# Altium integrated library Cypress PSoC 1.IntLib: 188 symbols (part 5 of 11)
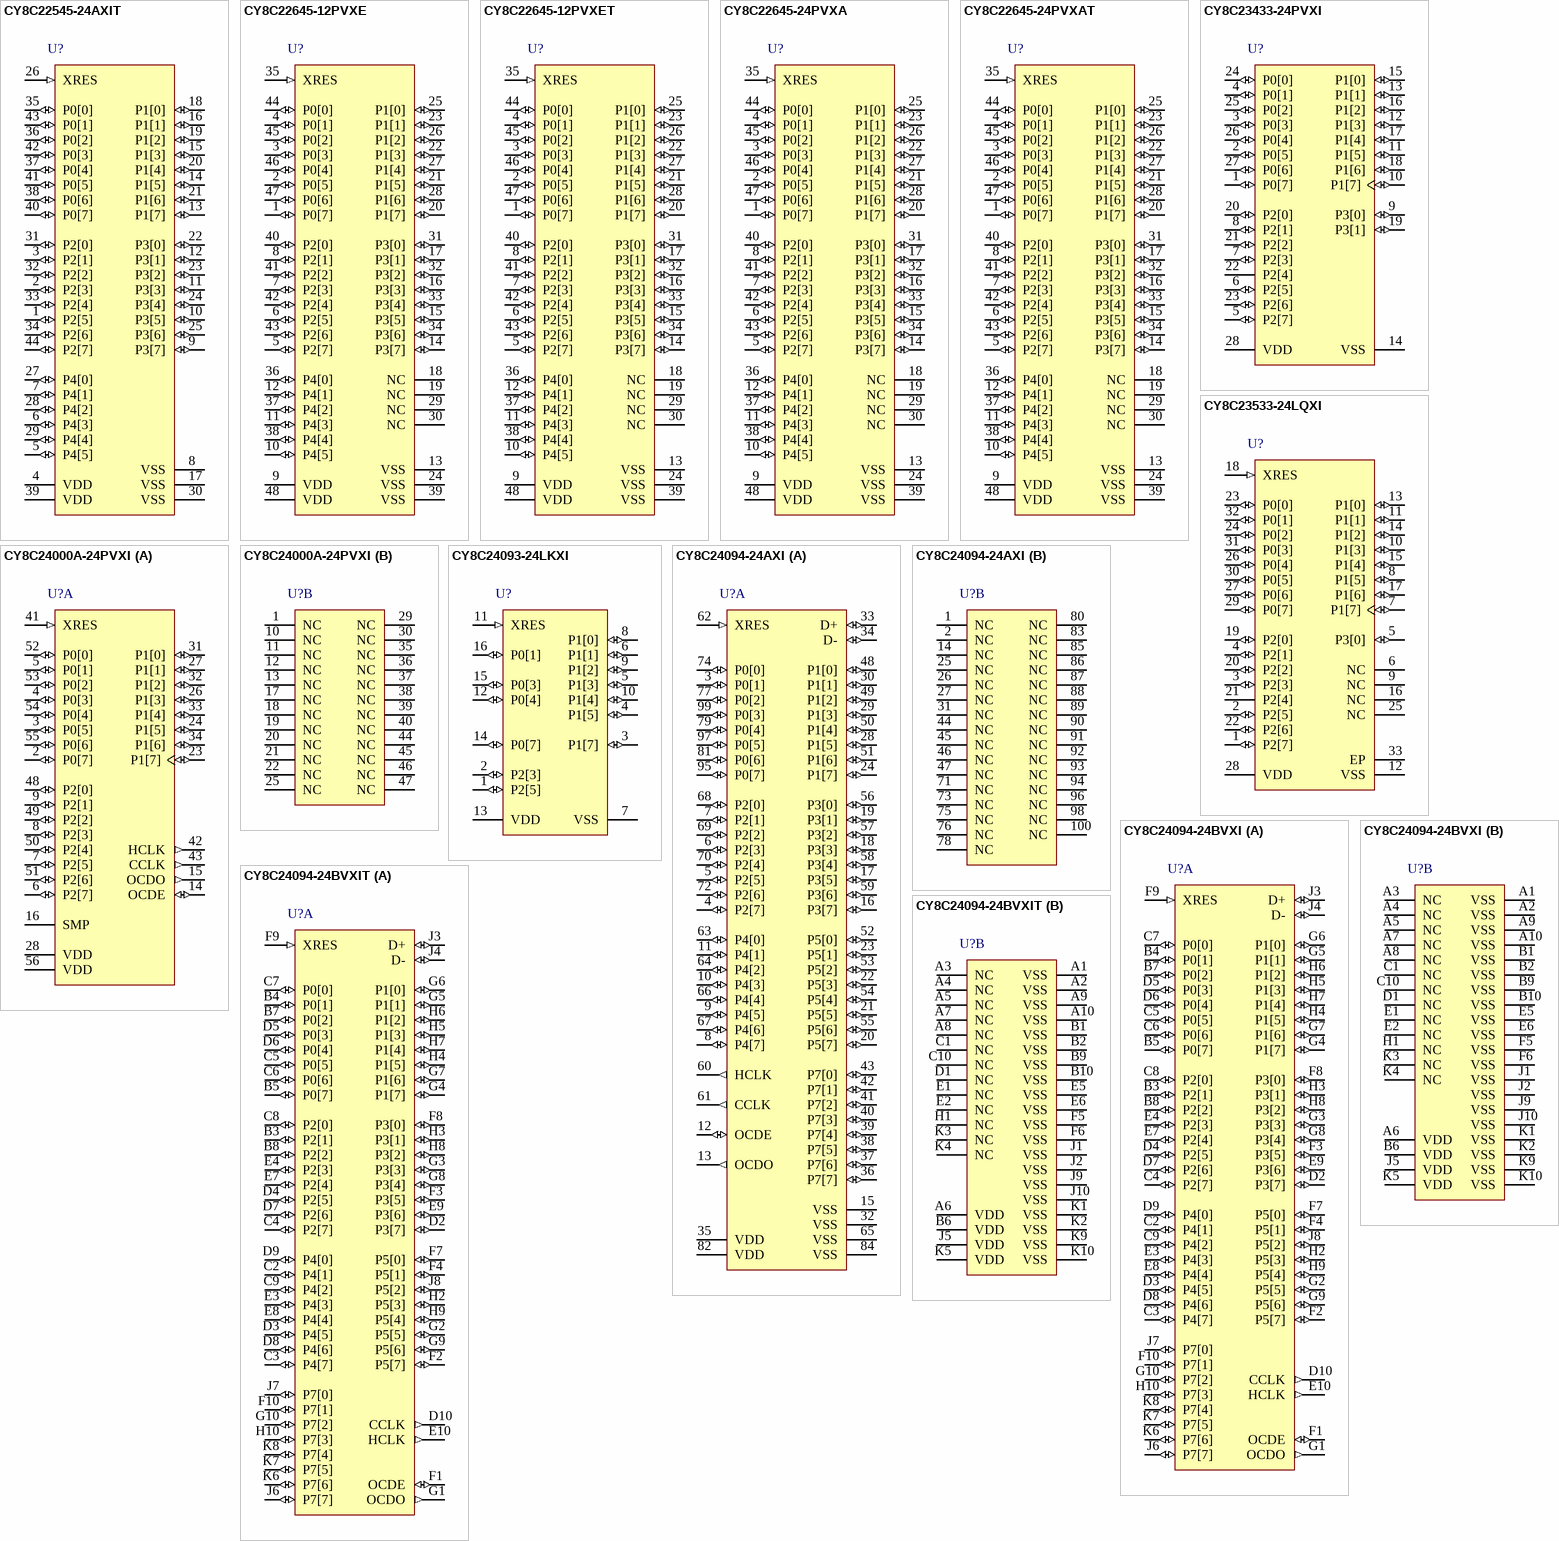
[diagram p15: symbols CY8C22545-24AXIT to CY8C24094-24BVXIT]

## CY8C22645-12PVXET
designator U?
Automotive PSoC Programmable System-on-Chip, 16 KB Flash, 39 GPIOs, 4.75 to 5.25 V, 48-Pin SSOP (O483), Tape and Reel; Manufacturer: Cypress; PartNumber: CY8C22645-12PVXET; CPU Core: M8C; No. of CapSense IO: 36; Flash (KB): 16; Max. Operating Voltage (V): 5.25; Min. Operating Voltage (V): 4.75; No. of GPIOs: 39; No. of Programmable Digital Blocks: 8; Rating: E; SRAM (KB): 1; DatasheetVersion: Rev. *K; PackageVersion: *D; PackageReference: PVX48; PackageDescription: 48-Pin Shrunk Small Outline Package, Body 15.88 x 7.51 mm, Pitch 0.64 mm; Supplier 1: Digi-Key; Supplier Part Number 1: CY8C22645-12PVXET-ND; Supplier 2: Mouser; Supplier Part Number 2: 727-CY8C2264512PVXET; Max. Operating Temp. (°C): 125; Min. Operating Temp. (°C): -40; Packing: Tape and Reel; RoHS: Pb-Free; Mounting Technology: Surface Mount; ComponentLink1Description: Manufacturer URL; ComponentLink1URL: http://www.cypress.com/; ComponentLink2Description: Datasheet; ComponentLink2URL: http://www.cypress.com/?docID=40421; ComponentLink3Description: Package Specification; ComponentLink3URL: http://www.cypress.com/?docID=39235; ComponentLink4Description: Product URL; ComponentLink4URL: http://www.cypress.com/?rID=42798
footprint CYP-PVX48_N (SOP, 48-Leads, Body 15.88x7.51mm, Pitch 0.635mm, IPC Medium Density)
footprint CYP-PVX48_L (SOP, 48-Leads, Body 15.88x7.51mm, Pitch 0.635mm, IPC High Density)
footprint CYP-PVX48_M (SOP, 48-Leads, Body 15.88x7.51mm, Pitch 0.635mm, IPC Low Density)
pins: 1 P0[7] (io) "Analog column mux input, CMOD capacitor pin", 2 P0[5] (io) "Analog column mux input, CMOD capacitor pin", 3 P0[3] (io) "Analog column mux input", 4 P0[1] (io) "Analog column mux input", 5 P2[7] (io) "Direct input to analog block", 6 P2[5] (io) "Optional SAR ADC external reference", 7 P2[3] (io), 8 P2[1] (io), 9 VDD (power) "Supply voltage", 10 P4[5] (io), 11 P4[3] (io), 12 P4[1] (io), 13 VSS (power) "Ground connection", 14 P3[7] (io), 15 P3[5] (io), 16 P3[3] (io), 17 P3[1] (io), 18 NC "Not connected", 19 NC "Not connected", 20 P1[7] (io) "I2C serial clock", 21 P1[5] (io) "I2C serial data", 22 P1[3] (io), 23 P1[1] (io) "Crystal input (XTALin), I2C SCL,ISSP-SCLK", 24 VSS (power), 25 P1[0] (io) "Crystal output (XTALout), I2C SDA,ISSP-SDATA", 26 P1[2] (io), 27 P1[4] (io) "Optional external clock input", 28 P1[6] (io), 29 NC "Not connected", 30 NC "Not connected", 31 P3[0] (io), 32 P3[2] (io), 33 P3[4] (io), 34 P3[6] (io), 35 XRES (in) "Active high external reset with internal pull-down", 36 P4[0] (io), 37 P4[2] (io), 38 P4[4] (io), 39 VSS (power) "Ground connection", 40 P2[0] (io), 41 P2[2] (io), 42 P2[4] (io), 43 P2[6] (io) "Direct input to analog block", 44 P0[0] (io) "Analog column mux input", 45 P0[2] (io) "Analog column mux input", 46 P0[4] (io) "Analog column mux input", 47 P0[6] (io) "Analog column mux input", 48 VDD (power) "Supply voltage"

## CY8C22645-24PVXA
designator U?
Automotive PSoC Programmable System-on-Chip, 16 KB Flash, 39 GPIOs, 3.00 to 5.25 V, 48-Pin SSOP (O483); Manufacturer: Cypress; PartNumber: CY8C22645-24PVXA; CPU Core: M8C; No. of CapSense IO: 36; Flash (KB): 16; Max. Operating Voltage (V): 5.25; Min. Operating Voltage (V): 3; No. of GPIOs: 39; No. of Programmable Digital Blocks: 8; Rating: A; SRAM (KB): 1; DatasheetVersion: Rev. *K; PackageVersion: *D; PackageReference: PVX48; PackageDescription: 48-Pin Shrunk Small Outline Package, Body 15.88 x 7.51 mm, Pitch 0.64 mm; Supplier 1: Digi-Key; Supplier Part Number 1: CY8C22645-24PVXA-ND; Supplier 2: Mouser; Supplier Part Number 2: 727-CY8C22645-24PVXA; Max. Operating Temp. (°C): 85; Min. Operating Temp. (°C): -40; RoHS: Pb-Free; Mounting Technology: Surface Mount; ComponentLink1Description: Manufacturer URL; ComponentLink1URL: http://www.cypress.com/; ComponentLink2Description: Datasheet; ComponentLink2URL: http://www.cypress.com/?docID=40421; ComponentLink3Description: Package Specification; ComponentLink3URL: http://www.cypress.com/?docID=39235; ComponentLink4Description: Product URL; ComponentLink4URL: http://www.cypress.com/?rID=42798
footprint CYP-PVX48_N (SOP, 48-Leads, Body 15.88x7.51mm, Pitch 0.635mm, IPC Medium Density)
footprint CYP-PVX48_L (SOP, 48-Leads, Body 15.88x7.51mm, Pitch 0.635mm, IPC High Density)
footprint CYP-PVX48_M (SOP, 48-Leads, Body 15.88x7.51mm, Pitch 0.635mm, IPC Low Density)
pins: 1 P0[7] (io) "Analog column mux input, CMOD capacitor pin", 2 P0[5] (io) "Analog column mux input, CMOD capacitor pin", 3 P0[3] (io) "Analog column mux input", 4 P0[1] (io) "Analog column mux input", 5 P2[7] (io) "Direct input to analog block", 6 P2[5] (io) "Optional SAR ADC external reference", 7 P2[3] (io), 8 P2[1] (io), 9 VDD (power) "Supply voltage", 10 P4[5] (io), 11 P4[3] (io), 12 P4[1] (io), 13 VSS (power) "Ground connection", 14 P3[7] (io), 15 P3[5] (io), 16 P3[3] (io), 17 P3[1] (io), 18 NC "Not connected", 19 NC "Not connected", 20 P1[7] (io) "I2C serial clock", 21 P1[5] (io) "I2C serial data", 22 P1[3] (io), 23 P1[1] (io) "Crystal input (XTALin), I2C SCL,ISSP-SCLK", 24 VSS (power), 25 P1[0] (io) "Crystal output (XTALout), I2C SDA,ISSP-SDATA", 26 P1[2] (io), 27 P1[4] (io) "Optional external clock input", 28 P1[6] (io), 29 NC "Not connected", 30 NC "Not connected", 31 P3[0] (io), 32 P3[2] (io), 33 P3[4] (io), 34 P3[6] (io), 35 XRES (in) "Active high external reset with internal pull-down", 36 P4[0] (io), 37 P4[2] (io), 38 P4[4] (io), 39 VSS (power) "Ground connection", 40 P2[0] (io), 41 P2[2] (io), 42 P2[4] (io), 43 P2[6] (io) "Direct input to analog block", 44 P0[0] (io) "Analog column mux input", 45 P0[2] (io) "Analog column mux input", 46 P0[4] (io) "Analog column mux input", 47 P0[6] (io) "Analog column mux input", 48 VDD (power) "Supply voltage"

## CY8C22645-24PVXAT
designator U?
Automotive PSoC Programmable System-on-Chip, 16 KB Flash, 39 GPIOs, 3.00 to 5.25 V, 48-Pin SSOP (O483), Tape and Reel; Manufacturer: Cypress; PartNumber: CY8C22645-24PVXAT; CPU Core: M8C; No. of CapSense IO: 36; Flash (KB): 16; Max. Operating Voltage (V): 5.25; Min. Operating Voltage (V): 3; No. of GPIOs: 39; No. of Programmable Digital Blocks: 8; Rating: A; SRAM (KB): 1; DatasheetVersion: Rev. *K; PackageVersion: *D; PackageReference: PVX48; PackageDescription: 48-Pin Shrunk Small Outline Package, Body 15.88 x 7.51 mm, Pitch 0.64 mm; Supplier 1: Digi-Key; Supplier Part Number 1: CY8C22645-24PVXAT-ND; Supplier 2: Mouser; Supplier Part Number 2: 727-CY8C2264524PVXAT; Max. Operating Temp. (°C): 85; Min. Operating Temp. (°C): -40; Packing: Tape and Reel; RoHS: Pb-Free; Mounting Technology: Surface Mount; ComponentLink1Description: Manufacturer URL; ComponentLink1URL: http://www.cypress.com/; ComponentLink2Description: Datasheet; ComponentLink2URL: http://www.cypress.com/?docID=40421; ComponentLink3Description: Package Specification; ComponentLink3URL: http://www.cypress.com/?docID=39235; ComponentLink4Description: Product URL; ComponentLink4URL: http://www.cypress.com/?rID=42798
footprint CYP-PVX48_N (SOP, 48-Leads, Body 15.88x7.51mm, Pitch 0.635mm, IPC Medium Density)
footprint CYP-PVX48_L (SOP, 48-Leads, Body 15.88x7.51mm, Pitch 0.635mm, IPC High Density)
footprint CYP-PVX48_M (SOP, 48-Leads, Body 15.88x7.51mm, Pitch 0.635mm, IPC Low Density)
pins: 1 P0[7] (io) "Analog column mux input, CMOD capacitor pin", 2 P0[5] (io) "Analog column mux input, CMOD capacitor pin", 3 P0[3] (io) "Analog column mux input", 4 P0[1] (io) "Analog column mux input", 5 P2[7] (io) "Direct input to analog block", 6 P2[5] (io) "Optional SAR ADC external reference", 7 P2[3] (io), 8 P2[1] (io), 9 VDD (power) "Supply voltage", 10 P4[5] (io), 11 P4[3] (io), 12 P4[1] (io), 13 VSS (power) "Ground connection", 14 P3[7] (io), 15 P3[5] (io), 16 P3[3] (io), 17 P3[1] (io), 18 NC "Not connected", 19 NC "Not connected", 20 P1[7] (io) "I2C serial clock", 21 P1[5] (io) "I2C serial data", 22 P1[3] (io), 23 P1[1] (io) "Crystal input (XTALin), I2C SCL,ISSP-SCLK", 24 VSS (power), 25 P1[0] (io) "Crystal output (XTALout), I2C SDA,ISSP-SDATA", 26 P1[2] (io), 27 P1[4] (io) "Optional external clock input", 28 P1[6] (io), 29 NC "Not connected", 30 NC "Not connected", 31 P3[0] (io), 32 P3[2] (io), 33 P3[4] (io), 34 P3[6] (io), 35 XRES (in) "Active high external reset with internal pull-down", 36 P4[0] (io), 37 P4[2] (io), 38 P4[4] (io), 39 VSS (power) "Ground connection", 40 P2[0] (io), 41 P2[2] (io), 42 P2[4] (io), 43 P2[6] (io) "Direct input to analog block", 44 P0[0] (io) "Analog column mux input", 45 P0[2] (io) "Analog column mux input", 46 P0[4] (io) "Analog column mux input", 47 P0[6] (io) "Analog column mux input", 48 VDD (power) "Supply voltage"

## CY8C23433-24PVXI
designator U?
PSoC Programmable System-on-Chip, 8 KB Flash, 26 GPIOs, 3.00 to 5.25 V, 28 Pin SSOP (O28.21); Manufacturer: Cypress; PartNumber: CY8C23433-24PVXI; Flash (KB): 8; Max. Operating Voltage (V): 5.25; Min. Operating Voltage (V): 3.00; No. of Programmable Digital Blocks: 4; DatasheetVersion: Rev. *H; PackageVersion: *C; PackageReference: PVX28; PackageDescription: 28-Pin SSOP, Body 10.2 x 5.3 mm, Pitch 0.65 mm; Supplier 1: Digi-Key; Supplier Part Number 1: CY8C23433-24PVXI-ND; Supplier 2: Mouser; Supplier Part Number 2: 727-CY8C23433-24PVXI; Mounting Technology: Surface Mount; ComponentLink1Description: Manufacturer URL; ComponentLink1URL: http://www.cypress.com/; ComponentLink2Description: Datasheet; ComponentLink2URL: http://www.cypress.com/?docID=45259; ComponentLink3Description: Package Specification; ComponentLink3URL: http://www.cypress.com/?docID=1371; ComponentLink4Description: Product URL; ComponentLink4URL: http://www.cypress.com/?rID=3377
footprint CYP-PVX28_N (SOP, 28-Leads, Body 10.2x5.3mm, Pitch 0.65mm, IPC Medium Density)
footprint CYP-PVX28_L (SOP, 28-Leads, Body 10.2x5.3mm, Pitch 0.65mm, IPC High Density)
footprint CYP-PVX28_M (SOP, 28-Leads, Body 10.2x5.3mm, Pitch 0.65mm, IPC Low Density)
pins: 1 P0[7] (io) "Analog column mux IP and ADC IP", 2 P0[5] (io) "Analog column mux IP and column O/P and ADC IP", 3 P0[3] (io) "Analog column mux IP and column O/P and ADC IP", 4 P0[1] (io) "Analog column mux IP and ADC IP", 5 P2[7] (io) "GPIO", 6 P2[5] (io) "GPIO", 7 P2[3] (io) "Direct switched capacitor input", 8 P2[1] (io) "Direct switched capacitor input", 9 P3[0] (io) "GPIO/ADC Vref (optional)", 10 P1[7] (io) "I2C SCL", 11 P1[5] (io) "I2C SDA", 12 P1[3] (io) "GPIO", 13 P1[1] (io) "GPIO, Xtal input, I2C SCL, ISSP SCL", 14 VSS (power) "Ground Pin", 15 P1[0] (io) "GPIO, Xtal output, I2C SDA, ISSP SDA", 16 P1[2] (io) "GPIO", 17 P1[4] (io) "GPIO, External clock IP", 18 P1[6] (io) "GPIO", 19 P3[1] (io) "GPIO", 20 P2[0] (io) "Direct switched capacitor input", 21 P2[2] (io) "Direct switched capacitor input", 22 P2[4] (power) "External analog ground (AGnd)", 23 P2[6] (io) "Analog voltage reference (VRef)", 24 P0[0] (io) "Analog column mux IP and ADC IP", 25 P0[2] (io) "Analog column mux IP and ADC IP", 26 P0[4] (io) "Analog column mux IP and ADC IP", 27 P0[6] (io) "Analog column mux IP and ADC IP", 28 VDD (power) "Supply Voltage"

## CY8C23533-24LQXI
designator U?
PSoC Programmable System-on-Chip, 8 KB Flash, 26 GPIOs, 3.00 to 5.25 V, 32-Pin QFN (LQ32); Manufacturer: Cypress; PartNumber: CY8C23533-24LQXI; Flash (KB): 8; Max. Operating Voltage (V): 5.25; Min. Operating Voltage (V): 3.00; No. of Programmable Digital Blocks: 4; DatasheetVersion: Rev. *H; PackageReference: LQX32; PackageDescription: 32-Pin QFN (5 x 4 x 0.55 mm) LQ32 3.5 x 3.5 E-Pad (Sawn); Supplier 1: Digi-Key; Supplier Part Number 1: CY8C23533-24LQXI-ND; Supplier 2: Mouser; Supplier Part Number 2: 727-CY8C23533-24LQXI; Mounting Technology: Surface Mount; Code_JEDEC: MO-248; ComponentLink1Description: Manufacturer URL; ComponentLink1URL: http://www.cypress.com/; ComponentLink2Description: Datasheet; ComponentLink2URL: http://www.cypress.com/?docID=45259; ComponentLink3Description: Package Specification; ComponentLink3URL: http://www.cypress.com/?docID=40402; ComponentLink4Description: Product URL; ComponentLink4URL: http://www.cypress.com/?rID=3377
footprint CYP-LQX32_N (QFN, 32-Leads, Body 5x5mm, Pitch 0.5mm, Thermal Pad 3.5x3.5mm, IPC Medium Density)
footprint CYP-LQX32_L (QFN, 32-Leads, Body 5x5mm, Pitch 0.5mm, Thermal Pad 3.5X3.5mm, IPC High Density)
footprint CYP-LQX32_M (QFN, 32-Leads, Body 5x5mm, Pitch 0.5mm, Thermal Pad 3.5x3.5mm, IPC Low Density)
pins: 1 P2[7] (io) "GPIO", 2 P2[5] (io) "GPIO", 3 P2[3] (io) "Direct switched capacitor block input", 4 P2[1] (io) "Direct switched capacitor block input", 5 P3[0] (io) "GPIO/ADC Vref (optional)", 6 NC "No connection", 7 P1[7] (io) "I2C serial clock (SCL)", 8 P1[5] (io) "I2C serial data (SDA)", 9 NC "No connection", 10 P1[3] (io) "GPIO", 11 P1[1] (io) "GPIO, crystal Input (XTAL in), I2C serial clock(SCL),ISSP-SCLK", 12 VSS (power) "Ground connection", 13 P1[0] (io) "GPIO, crystal output (XTAL out), I2C serial data(SDA),ISSP-SDATA", 14 P1[2] (io) "GPIO", 15 P1[4] (io) "GPIO, external clock IP", 16 NC "No connection", 17 P1[6] (io) "GPIO", 18 XRES (in) "Active high external reset with internal pull down", 19 P2[0] (io) "Direct switched capacitor block input", 20 P2[2] (io) "Direct switched capacitor block input", 21 P2[4] (power) "External analog ground (AGnd)", 22 P2[6] (io) "External voltage reference (VRef)", 23 P0[0] (io) "Analog column mux input and ADC input", 24 P0[2] (io) "Analog column mux input and ADC input", 25 NC "No connection", 26 P0[4] (io) "Analog column mux input and ADC input", 27 P0[6] (io) "Analog column mux input and ADC input", 28 VDD (power) "Supply voltage", 29 P0[7] (io) "Analog column mux input and ADC input", 30 P0[5] (io) "Analog column mux input, column output and ADC input", 31 P0[3] (io) "Analog column mux input, column output and ADC input", 32 P0[1] (io) "Analog column mux input.and ADC input", 33 EP (power)

## CY8C24000A-24PVXI
designator U?
PSoC Programmable System-on-Chip, 4 KB Flash, 24 GPIOs, 2.4 to 5.25 V, 56-Pin SSOP (PVX56); Manufacturer: Cypress; PartNumber: CY8C24000A-24PVXI; Flash (KB): 4; Max. Operating Frequency (MHz): 24; Max. Operating Voltage (V): 5.25; Min. Operating Voltage (V): 2.4; SRAM (KB): 0.25; DatasheetVersion: Rev. *T; PackageVersion: Rev. *F, 08/2012; PackageReference: PVX56; PackageDescription: 56-Pin Shrunk Small Outline Package, Body 7.506 x 18.415 mm, Pitch 0.635 mm; Supplier 1: Mouser; Supplier Part Number 1: N/A; Max. Operating Temp. (degreesC): 85; Min. Operating Temp. (degreesC): -40; No. of GPIOs: 24; RoHS: Pb-Free; Mounting Technology: Surface Mount; ComponentLink1Description: Manufacturer URL; ComponentLink1URL: http://www.cypress.com/; ComponentLink2Description: Datasheet; ComponentLink2URL: http://www.cypress.com/?docID=45193; ComponentLink3Description: Package Specification; ComponentLink3URL: http://www.cypress.com/?docID=39259
footprint CYP-PVX56_N (SOP, 56-Leads, Body 18.415x7.506mm, Pitch 0.635mm , IPC Medium Density)
footprint CYP-PVX56_L (SOP, 56-Leads, Body 18.415x7.506mm, Pitch 0.635mm, IPC High Density)
footprint CYP-PVX56_M (SOP, 56-Leads, Body 18.415x7.506mm, Pitch 0.635mm, IPC Low Density)
part A pins: 2 P0[7] (io), 3 P0[5] (io), 4 P0[3] (io), 5 P0[1] (io), 6 P2[7] (io), 7 P2[5] (io), 8 P2[3] (io), 9 P2[1] (io), 14 OCDE (io) "OCD even data I/O", 15 OCDO (out) "OCD odd data output", 16 SMP (power) "SMP connection to required external components", 23 P1[7] (io) "I2C SCL", 24 P1[5] (io) "I2C SDA", 26 P1[3] (io), 27 P1[1] (io) "XTALin, I2C SCL, ISSP-SCLK", 28 VDD (power) "Supply voltage", 31 P1[0] (io) "XTALout, I2C SDA, ISSP-SDATA", 32 P1[2] (io), 33 P1[4] (io) "Optional EXTCLK", 34 P1[6] (io), 41 XRES (in) "Active high external reset with internal pull-down.", 42 HCLK (out) "OCD high speed clock output.", 43 CCLK (out) "OCD CPU clock output.", 48 P2[0] (io) "Direct switched capacitor block input.", 49 P2[2] (io) "Direct switched capacitor block input.", 50 P2[4] (io) "External AGND.", 51 P2[6] (io) "External VREF.", 52 P0[0] (io) "Analog column mux input.", 53 P0[2] (io) "Analog column mux input and column output.", 54 P0[4] (io) "Analog column mux input and column output.", 55 P0[6] (io) "Analog column mux input.", 56 VDD (power) "Supply voltage."
part B pins: 1 NC "No connection. Pin must be left floating", 10 NC "No connection. Pin must be left floating", 11 NC "No connection. Pin must be left floating", 12 NC "No connection. Pin must be left floating", 13 NC "No connection. Pin must be left floating", 17 NC "No connection. Pin must be left floating", 18 NC "No connection. Pin must be left floating", 19 NC "No connection. Pin must be left floating", 20 NC "No connection. Pin must be left floating", 21 NC "No connection. Pin must be left floating", 22 NC "No connection. Pin must be left floating", 25 NC "No connection. Pin must be left floating", 29 NC "No connection. Pin must be left floating", 30 NC "No connection. Pin must be left floating", 35 NC "No connection. Pin must be left floating", 36 NC "No connection. Pin must be left floating", 37 NC "No connection. Pin must be left floating", 38 NC "No connection. Pin must be left floating", 39 NC "No connection. Pin must be left floating", 40 NC "No connection. Pin must be left floating", 44 NC "No connection. Pin must be left floating", 45 NC "No connection. Pin must be left floating", 46 NC "No connection. Pin must be left floating", 47 NC "No connection. Pin must be left floating"

## CY8C24093-24LKXI
designator U?
PSoC Programmable System-on-Chip, 8 KB Flash, 13 GPIOs, 1.71 to 5.5 V, 16-Pin QFN (LKX16), Tray; Manufacturer: Cypress; PartNumber: CY8C24093-24LKXI; Flash (KB): 8; Max. Operating Frequency (MHz): 24; Max. Operating Voltage (V): 5.5; Min. Operating Voltage (V): 1.71; No. of GPIOs: 13; SRAM (KB): 1; DatasheetVersion: Rev. *E; PackageVersion: Rev. *E, 11/2009; PackageReference: LKX16; PackageDescription: 16-Pin Chip on Lead Sawn QFN, Body 3 X 3 mm, Pitch 0.5 mm; Supplier 1: Digi-Key; Supplier Part Number 1: CY8C24093-24LKXI-ND; Supplier 2: Newark; Supplier Part Number 2: 08X4478; Supplier 3: Mouser; Supplier Part Number 3: 727-CY8C24093-24LKXI; Max. Operating Temp. (degreesC): 85; Min. Operating Temp. (degreesC): -40; Packing: Tray; RoHS: Pb-Free; Mounting Technology: Surface Mount; Code_JEDEC: MO-220; ComponentLink1Description: Manufacturer URL; ComponentLink1URL: http://www.cypress.com/; ComponentLink2Description: Datasheet; ComponentLink2URL: http://www.cypress.com/?docID=45475; ComponentLink3Description: Package Specification; ComponentLink3URL: http://www.cypress.com/?docID=39689
footprint CYP-LKX16_N (QFN, 16-Leads, Body 3x3mm, Pitch 0.5mm, IPC Medium Density)
footprint CYP-LKX16_L (QFN, 16-Leads, Body 3x3mm, Pitch 0.5mm, IPC High Density)
footprint CYP-LKX16_M (QFN, 16-Leads, Body 3x3mm, Pitch 0.5mm, IPC Low Density)
pins: 1 P2[5] (io) "Crystal output (XOut)", 2 P2[3] (io) "Crystal input (XIn)", 3 P1[7] (io) "I2C SCL, SPI SS", 4 P1[5] (io) "I2C SDA, SPI MISO", 5 P1[3] (io) "SPI CLK", 6 P1[1] (io) "ISSP CLK, I2C SCL, SPI MOSI", 7 VSS (power) "Ground connection", 8 P1[0] (io) "ISSP DATA, I2C SDA, SPI CLK", 9 P1[2] (io), 10 P1[4] (io) "Optional external clock (EXTCLK)", 11 XRES (in) "Active high external reset with internal pull-down", 12 P0[4] (io), 13 VDD (power) "Supply voltage", 14 P0[7] (io), 15 P0[3] (io), 16 P0[1] (io)

## CY8C24094-24AXI
designator U?
PSoC Programmable System-on-Chip, 16 KB Flash, 56 GPIOs, 3.00 to 5.25 V, 100-Pin TQFP (A100SA); Manufacturer: Cypress; PartNumber: CY8C24094-24AXI; Comm. Interface: I2C-SPI-UART-USB; CPU Core: M8C; No. of CapSense IO: 44; Flash (KB): 16; Max. Operating Voltage (V): 5.25; Min. Operating Voltage (V): 3; No. of GPIOs: 56; Proximity Sensing: Y; PWMs: HW; Rating: I; Sliders: 8; SmartSense Enabled: N; SRAM (KB): 1; DatasheetVersion: Rev. AH; PackageVersion: *D; PackageReference: AX100; PackageDescription: 100-Pin Thin Plastic Quad Flatpack, Body 14 x14 mm, Pitch 0.5 mm; Supplier 1: Mouser; Supplier Part Number 1: N/A; Max. Operating Temp. (°C): 85; Min. Operating Temp. (°C): -40; RoHS: Pb-Free; Mounting Technology: Surface Mount; Code_JEDEC: MS-026; ComponentLink1Description: Manufacturer URL; ComponentLink1URL: http://www.cypress.com/; ComponentLink2Description: Datasheet; ComponentLink2URL: http://www.cypress.com/?docID=45174; ComponentLink3Description: Package Specification; ComponentLink3URL: http://www.cypress.com/?docID=35576; ComponentLink4Description: Product URL; ComponentLink4URL: http://www.cypress.com/?rID=3371
footprint CYP-AX100_N (QFN, 100-Leads, Body 14x14mm, Pitch 0.5mm, IPC Medium Density)
footprint CYP-AX100_L (QFN, 100-Leads, Body 14x14mm, Pitch 0.5mm, IPC High Density)
footprint CYP-AX100_M (QFN, 100-Leads, Body 14x14mm, Pitch 0.5mm, IPC Low Density)
part A pins: 3 P0[1] (io) "Analog column mux input", 4 P2[7] (io), 5 P2[5] (io), 6 P2[3] (io) "Direct switched capacitor block input", 7 P2[1] (io) "Direct switched capacitor block input", 8 P4[7] (io), 9 P4[5] (io), 10 P4[3] (io), 11 P4[1] (io), 12 OCDE (io) "OCD even data I/O", 13 OCDO (out) "OCD odd data output", 15 VSS (power) "Ground connection", 16 P3[7] (io), 17 P3[5] (io), 18 P3[3] (io), 19 P3[1] (io), 20 P5[7] (io), 21 P5[5] (io), 22 P5[3] (io), 23 P5[1] (io), 24 P1[7] (io) "I2C SCL", 28 P1[5] (io) "I2C SDA", 29 P1[3] (io), 30 P1[1] (io) "Crystal (XTALin), I2C SCL, ISSP SCLK", 32 VSS (power) "Ground connection", 33 D+ (io), 34 D- (io), 35 VDD (power) "Supply voltage", 36 P7[7] (io), 37 P7[6] (io), 38 P7[5] (io), 39 P7[4] (io), 40 P7[3] (io), 41 P7[2] (io), 42 P7[1] (io), 43 P7[0] (io), 48 P1[0] (io) "Crystal (XTALout), I2C SDA, ISSP SDATA", 49 P1[2] (io), 50 P1[4] (io) "Optional EXTCLK", 51 P1[6] (io), 52 P5[0] (io), 53 P5[2] (io), 54 P5[4] (io), 55 P5[6] (io), 56 P3[0] (io), 57 P3[2] (io), 58 P3[4] (io), 59 P3[6] (io), 60 HCLK (out) "OCD high speed clock output", 61 CCLK (out) "OCD CPU clock output", 62 XRES (in) "Active high pin reset with internal pull-down", 63 P4[0] (io), 64 P4[2] (io), 65 VSS (power) "Ground connection", 66 P4[4] (io), 67 P4[6] (io), 68 P2[0] (io) "Direct switched capacitor block input", 69 P2[2] (io) "Direct switched capacitor block input", 70 P2[4] (io) "External AGND input", 72 P2[6] (io) "External VREF input", 74 P0[0] (io) "Analog column mux input", 77 P0[2] (io) "Analog column mux input and column output", 79 P0[4] (io) "Analog column mux input and column output", 81 P0[6] (io) "Analog column mux input", 82 VDD (power) "Supply voltage", 84 VSS (power) "Ground connection", 95 P0[7] (io) "Analog column mux input", 97 P0[5] (io) "Analog column mux input and column output", 99 P0[3] (io) "Analog column mux input and column output"
part B pins: 1 NC "No connection. Pin must be left floating", 2 NC "No connection. Pin must be left floating", 14 NC "No connection. Pin must be left floating", 25 NC "No connection. Pin must be left floating", 26 NC "No connection. Pin must be left floating", 27 NC "No connection. Pin must be left floating", 31 NC "No connection. Pin must be left floating", 44 NC "No connection. Pin must be left floating", 45 NC "No connection. Pin must be left floating", 46 NC "No connection. Pin must be left floating", 47 NC "No connection. Pin must be left floating", 71 NC "No connection. Pin must be left floating", 73 NC "No connection. Pin must be left floating", 75 NC "No connection. Pin must be left floating", 76 NC "No connection. Pin must be left floating", 78 NC "No connection. Pin must be left floating", 80 NC "No connection. Pin must be left floating", 83 NC "No connection. Pin must be left floating", 85 NC "No connection. Pin must be left floating", 86 NC "No connection. Pin must be left floating", 87 NC "No connection. Pin must be left floating", 88 NC "No connection. Pin must be left floating", 89 NC "No connection. Pin must be left floating", 90 NC "No connection. Pin must be left floating", 91 NC "No connection. Pin must be left floating", 92 NC "No connection. Pin must be left floating", 93 NC "No connection. Pin must be left floating", 94 NC "No connection. Pin must be left floating", 96 NC "No connection. Pin must be left floating", 98 NC "No connection. Pin must be left floating", 100 NC "No connection. Pin must be left floating"

## CY8C24094-24BVXI
designator U?
PSoC Programmable System-on-Chip, 16 KB Flash, 56 GPIOs, 3.00 to 5.25 V, 100-Ball VFBGA (VFBGA-100-51-852096); Manufacturer: Cypress; PartNumber: CY8C24094-24BVXI; Comm. Interface: I2C-SPI-UART-USB; CPU Core: M8C; No. of CapSense IO: 44; Flash (KB): 16; Max. Operating Voltage (V): 5.25; Min. Operating Voltage (V): 3; No. of GPIOs: 56; Proximity Sensing: Y; PWMs: HW; Rating: I; Sliders: 8; SmartSense Enabled: N; SRAM (KB): 1; DatasheetVersion: Rev. AH; PackageVersion: Rev. *J; PackageReference: BVX100; PackageDescription: 100-Ball FBGA, Body 6 x 6 mm, Pitch 0.50 mm; Supplier 1: Digi-Key; Supplier Part Number 1: CY8C24094-24BVXI-ND; Supplier 2: Newark; Supplier Part Number 2: 13T3098; Supplier 3: Mouser; Supplier Part Number 3: 727-CY8C24094-24BVXI; Max. Operating Temp. (°C): 85; Min. Operating Temp. (°C): -40; RoHS: Pb-Free; Mounting Technology: Surface Mount; ComponentLink1Description: Manufacturer URL; ComponentLink1URL: http://www.cypress.com/; ComponentLink2Description: Datasheet; ComponentLink2URL: http://www.cypress.com/?docID=45174; ComponentLink3Description: Package Specification; ComponentLink3URL: http://www.cypress.com/?docID=35576; ComponentLink4Description: Product URL; ComponentLink4URL: http://www.cypress.com/?rID=3371
footprint CYP-BVX100 (BGA, 100-Balls, Body 6x6mm, Pitch 0.5mm)
part A pins: B3 P2[1] (io) "Direct switched capacitor block input", B4 P0[1] (io) "Analog column mux input", B5 P0[7] (io) "Analog column mux input", B7 P0[2] (io) "Analog column mux input", B8 P2[2] (io) "Direct switched capacitor block input", C2 P4[1] (io), C3 P4[7] (io), C4 P2[7] (io), C5 P0[5] (io) "Analog column mux input and column output", C6 P0[6] (io) "Analog column mux input", C7 P0[0] (io) "Analog column mux input", C8 P2[0] (io) "Direct switched capacitor block input", C9 P4[2] (io), D2 P3[7] (io), D3 P4[5] (io), D4 P2[5] (io), D5 P0[3] (io) "Analog column mux input and column output", D6 P0[4] (io) "Analog column mux input", D7 P2[6] (io) "External VREF input", D8 P4[6] (io), D9 P4[0] (io), D10 CCLK (out) "OCD CPU clock output", E3 P4[3] (io), E4 P2[3] (io) "Direct switched capacitor block input", E7 P2[4] (io) "External AGND input", E8 P4[4] (io), E9 P3[6] (io), E10 HCLK (out) "OCD high speed clock output", F1 OCDE (io) "OCD even data I/O", F2 P5[7] (io), F3 P3[5] (io), F4 P5[1] (io), F7 P5[0] (io), F8 P3[0] (io), F9 XRES (in) "Active high pin reset with internal pull-down", F10 P7[1] (io), G1 OCDO (out) "OCD odd data output", G2 P5[5] (io), G3 P3[3] (io), G4 P1[7] (io) "I2C SCL", G5 P1[1] (io) "I2C SCL.ISSP,SCLK", G6 P1[0] (io) "I2C SDA,ISSP SDATA", G7 P1[6] (io), G8 P3[4] (io), G9 P5[6] (io), G10 P7[2] (io), H2 P5[3] (io), H3 P3[1] (io), H4 P1[5] (io) "I2C SDA", H5 P1[3] (io), H6 P1[2] (io), H7 P1[4] (io) "Optional EXTCLK", H8 P3[2] (io), H9 P5[4] (io), H10 P7[3] (io), J3 D+ (io), J4 D- (io), J6 P7[7] (io), J7 P7[0] (io), J8 P5[2] (io), K6 P7[6] (io), K7 P7[5] (io), K8 P7[4] (io)
part B pins: A1 VSS (power) "Ground connection", A2 VSS (power) "Ground connection", A3 NC "No connection. Pin must be left floating", A4 NC "No connection. Pin must be left floating", A5 NC "No connection. Pin must be left floating", A6 VDD (power) "Supply voltage.", A7 NC "No connection. Pin must be left floating.", A8 NC "No connection. Pin must be left floating.", A9 VSS (power) "Ground connection", A10 VSS (power) "Ground connection", B1 VSS (power) "Ground connection", B2 VSS (power) "Ground connection", B6 VDD (power) "Supply voltage", B9 VSS (power) "Ground connection", B10 VSS (power) "Ground connection", C1 NC "No connection. Pin must be left floating", C10 NC "No connection. Pin must be left floating", D1 NC "No connection. Pin must be left floating", E1 NC "No connection. Pin must be left floating", E2 NC "No connection. Pin must be left floating", E5 VSS (power) "Ground connection", E6 VSS (power) "Ground connection", F5 VSS (power) "Ground connection", F6 VSS (power) "Ground connection", H1 NC "No connection. Pin must be left floating", J1 VSS (power) "Ground connection", J2 VSS (power) "Ground connection", J5 VDD (power) "Supply voltage", J9 VSS (power) "Ground connection", J10 VSS (power) "Ground connection", K1 VSS (power) "Ground connection", K2 VSS (power) "Ground connection", K3 NC "No connection. Pin must be left floating", K4 NC "No connection. Pin must be left floating", K5 VDD (power) "Supply voltage", K9 VSS (power) "Ground connection", K10 VSS (power) "Ground connection"

## CY8C24094-24BVXIT
designator U?
PSoC Programmable System-on-Chip, 16 KB Flash, 56 GPIOs, 3.00 to 5.25 V, 100-Pin VFBGA (VFBGA-100-51-85209), Tape and Reel; Manufacturer: Cypress; PartNumber: CY8C24094-24BVXIT; Comm. Interface: I2C-SPI-UART-USB; CPU Core: M8C; No. of CapSense IO: 44; Flash (KB): 16; Max. Operating Voltage (V): 5.25; Min. Operating Voltage (V): 3; No. of GPIOs: 56; Proximity Sensing: Y; PWMs: HW; Rating: I; Sliders: 8; SmartSense Enabled: N; SRAM (KB): 1; DatasheetVersion: Rev. AH; PackageVersion: Rev. *J; PackageReference: BVX100; PackageDescription: 100-Ball FBGA, Body 6 x 6 mm, Pitch 0.50 mm; Supplier 1: Digi-Key; Supplier Part Number 1: CY8C24094-24BVXIT-ND; Supplier 2: Mouser; Supplier Part Number 2: 727-CY8C2409424BVXIT; Max. Operating Temp. (°C): 85; Min. Operating Temp. (°C): -40; Packing: Tape and Reel; RoHS: Pb-Free; Mounting Technology: Surface Mount; ComponentLink1Description: Manufacturer URL; ComponentLink1URL: http://www.cypress.com/; ComponentLink2Description: Datasheet; ComponentLink2URL: http://www.cypress.com/?docID=45174; ComponentLink3Description: Package Specification; ComponentLink3URL: http://www.cypress.com/?docID=35576; ComponentLink4Description: Product URL; ComponentLink4URL: http://www.cypress.com/?rID=3371
footprint CYP-BVX100 (BGA, 100-Balls, Body 6x6mm, Pitch 0.5mm)
part A pins: B3 P2[1] (io) "Direct switched capacitor block input", B4 P0[1] (io) "Analog column mux input", B5 P0[7] (io) "Analog column mux input", B7 P0[2] (io) "Analog column mux input", B8 P2[2] (io) "Direct switched capacitor block input", C2 P4[1] (io), C3 P4[7] (io), C4 P2[7] (io), C5 P0[5] (io) "Analog column mux input and column output", C6 P0[6] (io) "Analog column mux input", C7 P0[0] (io) "Analog column mux input", C8 P2[0] (io) "Direct switched capacitor block input", C9 P4[2] (io), D2 P3[7] (io), D3 P4[5] (io), D4 P2[5] (io), D5 P0[3] (io) "Analog column mux input and column output", D6 P0[4] (io) "Analog column mux input", D7 P2[6] (io) "External VREF input", D8 P4[6] (io), D9 P4[0] (io), D10 CCLK (out) "OCD CPU clock output", E3 P4[3] (io), E4 P2[3] (io) "Direct switched capacitor block input", E7 P2[4] (io) "External AGND input", E8 P4[4] (io), E9 P3[6] (io), E10 HCLK (out) "OCD high speed clock output", F1 OCDE (io) "OCD even data I/O", F2 P5[7] (io), F3 P3[5] (io), F4 P5[1] (io), F7 P5[0] (io), F8 P3[0] (io), F9 XRES (in) "Active high pin reset with internal pull-down", F10 P7[1] (io), G1 OCDO (out) "OCD odd data output", G2 P5[5] (io), G3 P3[3] (io), G4 P1[7] (io) "I2C SCL", G5 P1[1] (io) "I2C SCL.ISSP,SCLK", G6 P1[0] (io) "I2C SDA,ISSP SDATA", G7 P1[6] (io), G8 P3[4] (io), G9 P5[6] (io), G10 P7[2] (io), H2 P5[3] (io), H3 P3[1] (io), H4 P1[5] (io) "I2C SDA", H5 P1[3] (io), H6 P1[2] (io), H7 P1[4] (io) "Optional EXTCLK", H8 P3[2] (io), H9 P5[4] (io), H10 P7[3] (io), J3 D+ (io), J4 D- (io), J6 P7[7] (io), J7 P7[0] (io), J8 P5[2] (io), K6 P7[6] (io), K7 P7[5] (io), K8 P7[4] (io)
part B pins: A1 VSS (power) "Ground connection", A2 VSS (power) "Ground connection", A3 NC "No connection. Pin must be left floating", A4 NC "No connection. Pin must be left floating", A5 NC "No connection. Pin must be left floating", A6 VDD (power) "Supply voltage.", A7 NC "No connection. Pin must be left floating.", A8 NC "No connection. Pin must be left floating.", A9 VSS (power) "Ground connection", A10 VSS (power) "Ground connection", B1 VSS (power) "Ground connection", B2 VSS (power) "Ground connection", B6 VDD (power) "Supply voltage", B9 VSS (power) "Ground connection", B10 VSS (power) "Ground connection", C1 NC "No connection. Pin must be left floating", C10 NC "No connection. Pin must be left floating", D1 NC "No connection. Pin must be left floating", E1 NC "No connection. Pin must be left floating", E2 NC "No connection. Pin must be left floating", E5 VSS (power) "Ground connection", E6 VSS (power) "Ground connection", F5 VSS (power) "Ground connection", F6 VSS (power) "Ground connection", H1 NC "No connection. Pin must be left floating", J1 VSS (power) "Ground connection", J2 VSS (power) "Ground connection", J5 VDD (power) "Supply voltage", J9 VSS (power) "Ground connection", J10 VSS (power) "Ground connection", K1 VSS (power) "Ground connection", K2 VSS (power) "Ground connection", K3 NC "No connection. Pin must be left floating", K4 NC "No connection. Pin must be left floating", K5 VDD (power) "Supply voltage", K9 VSS (power) "Ground connection", K10 VSS (power) "Ground connection"

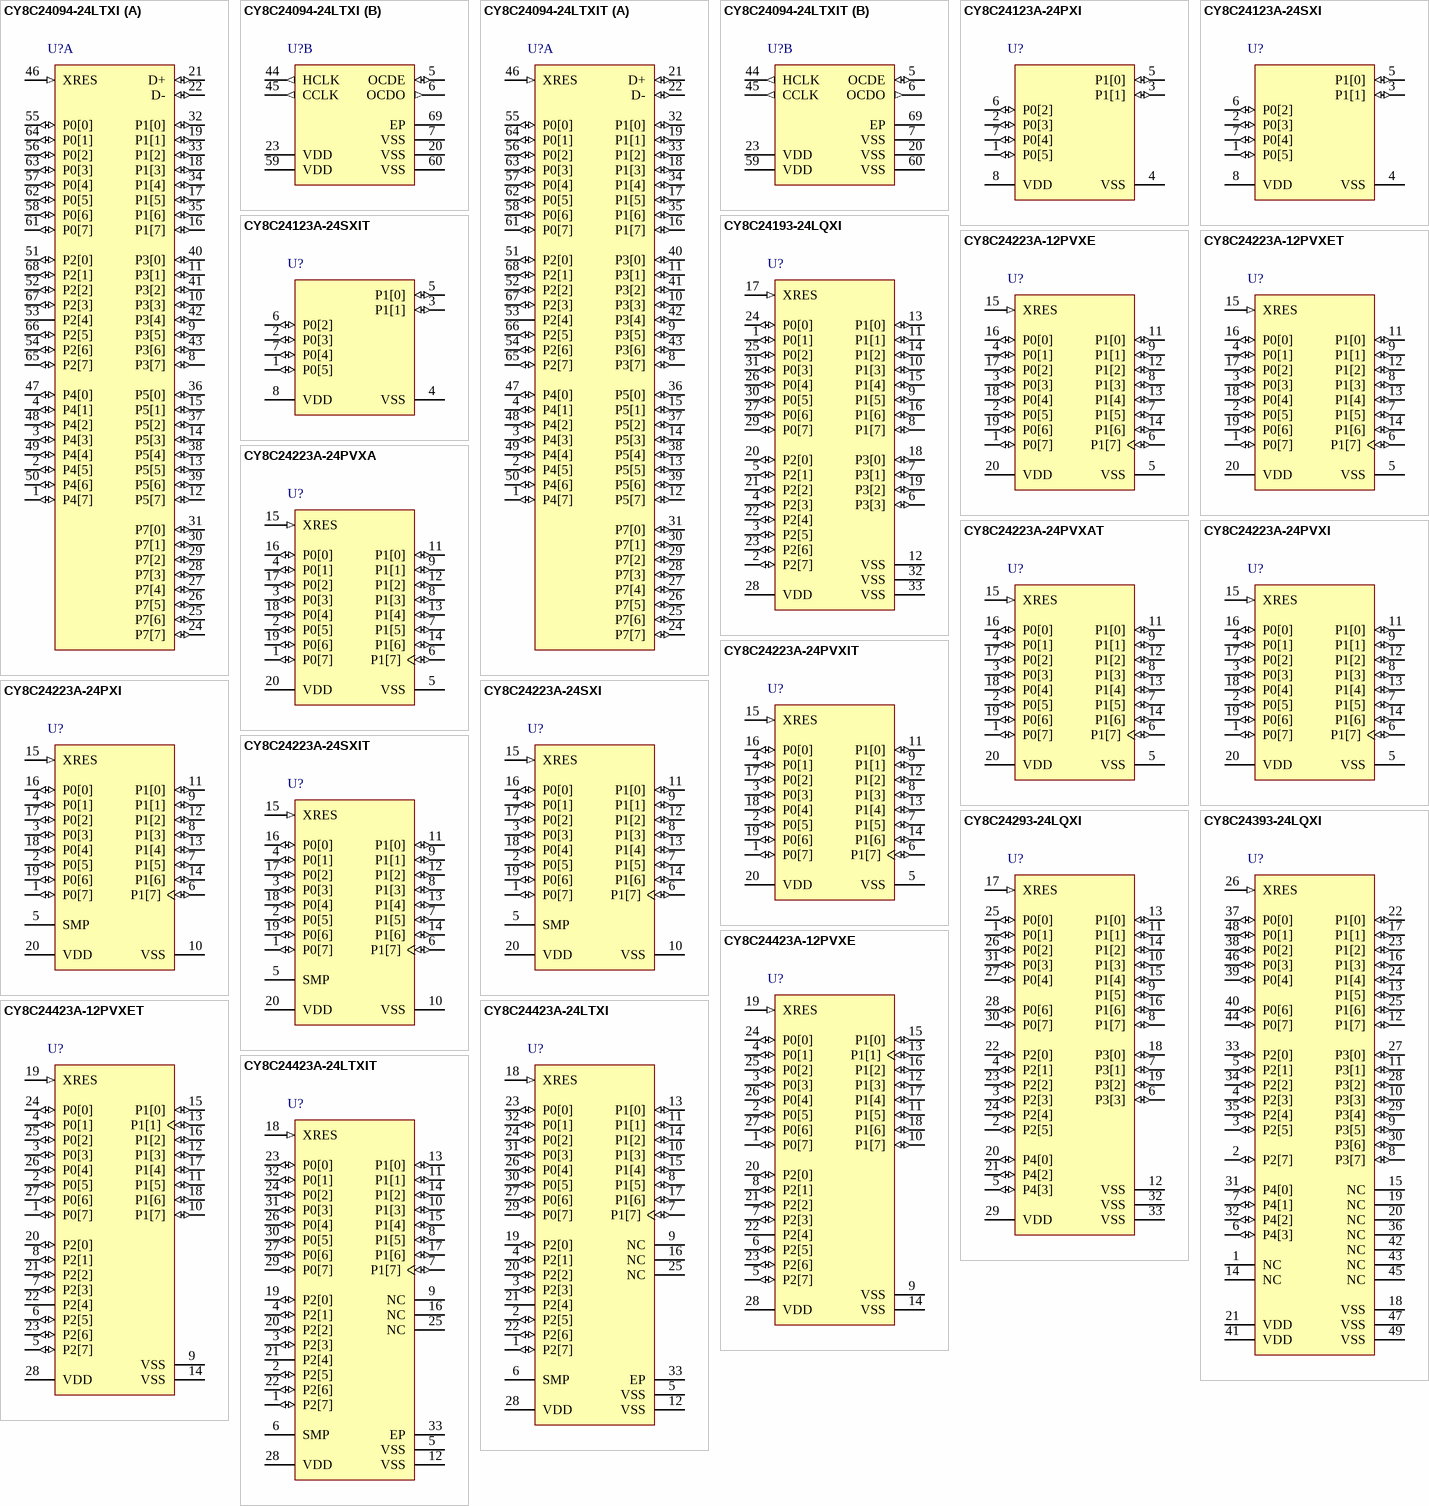
[diagram p5: symbols CY8C24094-24LTXI to CY8C24423A-24LTXIT]

## CY8C24094-24LTXI
designator U?
PSoC Programmable System-on-Chip, 16 KB Flash, 56 GPIOs, 3.00 to 5.25 V, 68-Pin QFN (QFN-68-8x8-001-09618); Manufacturer: Cypress; PartNumber: CY8C24094-24LTXI; Comm. Interface: I2C-SPI-UART-USB; CPU Core: M8C; No. of CapSense IO: 44; Flash (KB): 16; Max. Operating Voltage (V): 5.25; Min. Operating Voltage (V): 3; No. of GPIOs: 56; Proximity Sensing: Y; PWMs: HW; Rating: I; Sliders: 8; SmartSense Enabled: N; SRAM (KB): 1; DatasheetVersion: Rev. AH; PackageVersion: Rev. *E; PackageReference: LTX68; PackageDescription: 68-Pin QFN, Body 8.00 x 8.00 mm, Pitch 0.40 mm; Supplier 1: Digi-Key; Supplier Part Number 1: CY8C24094-24LTXI-ND; Supplier 2: Mouser; Supplier Part Number 2: 727-CY8C24094-24LTXI; Max. Operating Temp. (°C): 85; Min. Operating Temp. (°C): -40; No. of Programmable Digital Blocks: 3; RoHS: Pb-Free; Mounting Technology: Surface Mount; Code_JEDEC: MO-220; ComponentLink1Description: Manufacturer URL; ComponentLink1URL: http://www.cypress.com/; ComponentLink2Description: Datasheet; ComponentLink2URL: http://www.cypress.com/?docID=45174; ComponentLink3Description: Package Specification; ComponentLink3URL: http://www.cypress.com/?docID=38892; ComponentLink4Description: Product URL; ComponentLink4URL: http://www.cypress.com/?rID=3371
footprint CYP-LTX68_N (QFN, 68-Leads, Body 8x8mm, Pitch 0.4mm, Thermal Pad 5.7x5.7mm, IPC Medium Density)
footprint CYP-LTX68_L (QFN, 68-Leads, Body 8x8mm, Pitch 0.4mm, Thermal Pad 5.7x5.7mm, IPC High Density)
footprint CYP-LTX68_M (QFN, 68-Leads, Body 8x8mm, Pitch 0.4mm, Thermal Pad 5.7x5.7mm, IPC Low Density)
part A pins: 1 P4[7] (io), 2 P4[5] (io), 3 P4[3] (io), 4 P4[1] (io), 8 P3[7] (io), 9 P3[5] (io), 10 P3[3] (io), 11 P3[1] (io), 12 P5[7] (io), 13 P5[5] (io), 14 P5[3] (io), 15 P5[1] (io), 16 P1[7] (io) "I2C SCL", 17 P1[5] (io) "I2C SDA", 18 P1[3] (io), 19 P1[1] (io) "I2C SCL, ISSP SCLK", 21 D+ (io), 22 D- (io), 24 P7[7] (io), 25 P7[6] (io), 26 P7[5] (io), 27 P7[4] (io), 28 P7[3] (io), 29 P7[2] (io), 30 P7[1] (io), 31 P7[0] (io), 32 P1[0] (io) "I2C SDA, ISSP SDATA", 33 P1[2] (io), 34 P1[4] (io) "Optional EXTCLK", 35 P1[6] (io), 36 P5[0] (io), 37 P5[2] (io), 38 P5[4] (io), 39 P5[6] (io), 40 P3[0] (io), 41 P3[2] (io), 42 P3[4] (io), 43 P3[6] (io), 46 XRES (in) "Active high pin reset with internal pull-down", 47 P4[0] (io), 48 P4[2] (io), 49 P4[4] (io), 50 P4[6] (io), 51 P2[0] (io) "Direct switched capacitor block input", 52 P2[2] (io) "Direct switched capacitor block input", 53 P2[4] (power) "External AGND input", 54 P2[6] (io) "External VREF input", 55 P0[0] (io) "Analog column mux input", 56 P0[2] (io) "Analog column mux input and column output", 57 P0[4] (io) "Analog column mux input and column output", 58 P0[6] (io) "Analog column mux input", 61 P0[7] (io) "Analog column mux input, integration input #1", 62 P0[5] (io) "Analog column mux input and column output, integration input #2", 63 P0[3] (io) "Analog column mux input and column output", 64 P0[1] (io) "Analog column mux input", 65 P2[7] (io), 66 P2[5] (io), 67 P2[3] (io) "Direct switched capacitor block input", 68 P2[1] (io) "Direct switched capacitor block input"
part B pins: 5 OCDE (io) "OCD even data I/O", 6 OCDO (out) "OCD odd data output", 7 VSS (power) "Ground connection", 20 VSS (power) "Ground connection", 23 VDD (power) "Supply voltage", 44 HCLK (out) "OCD high speed clock output", 45 CCLK (out) "OCD CPU clock output", 59 VDD (power) "Supply voltage", 60 VSS (power) "Ground connection", 69 EP (power)

## CY8C24094-24LTXIT
designator U?
PSoC Programmable System-on-Chip, 16 KB Flash, 56 GPIOs, 3.00 to 5.25 V, 68-Pin QFN (QFN-68-8x8-001-09618), Tape and Reel; Manufacturer: Cypress; PartNumber: CY8C24094-24LTXIT; Comm. Interface: I2C-SPI-UART-USB; CPU Core: M8C; No. of CapSense IO: 44; Flash (KB): 16; Max. Operating Voltage (V): 5.25; Min. Operating Voltage (V): 3; No. of GPIOs: 56; Proximity Sensing: Y; PWMs: HW; Rating: I; Sliders: 8; SmartSense Enabled: N; SRAM (KB): 1; DatasheetVersion: Rev. AH; PackageVersion: Rev. *E; PackageReference: LTX68; PackageDescription: 68-Pin QFN, Body 8.00 x 8.00 mm, Pitch 0.40 mm; Supplier 1: Digi-Key; Supplier Part Number 1: CY8C24094-24LTXIT-ND; Supplier 2: Mouser; Supplier Part Number 2: 727-CY8C2409424LTXIT; Max. Operating Temp. (°C): 85; Min. Operating Temp. (°C): -40; No. of Programmable Digital Blocks: 3; Packing: Tape and Reel; RoHS: Pb-Free; Mounting Technology: Surface Mount; Code_JEDEC: MO-220; ComponentLink1Description: Manufacturer URL; ComponentLink1URL: http://www.cypress.com/; ComponentLink2Description: Datasheet; ComponentLink2URL: http://www.cypress.com/?docID=45174; ComponentLink3Description: Package Specification; ComponentLink3URL: http://www.cypress.com/?docID=38892; ComponentLink4Description: Product URL; ComponentLink4URL: http://www.cypress.com/?rID=3371
footprint CYP-LTX68_N (QFN, 68-Leads, Body 8x8mm, Pitch 0.4mm, Thermal Pad 5.7x5.7mm, IPC Medium Density)
footprint CYP-LTX68_L (QFN, 68-Leads, Body 8x8mm, Pitch 0.4mm, Thermal Pad 5.7x5.7mm, IPC High Density)
footprint CYP-LTX68_M (QFN, 68-Leads, Body 8x8mm, Pitch 0.4mm, Thermal Pad 5.7x5.7mm, IPC Low Density)
part A pins: 1 P4[7] (io), 2 P4[5] (io), 3 P4[3] (io), 4 P4[1] (io), 8 P3[7] (io), 9 P3[5] (io), 10 P3[3] (io), 11 P3[1] (io), 12 P5[7] (io), 13 P5[5] (io), 14 P5[3] (io), 15 P5[1] (io), 16 P1[7] (io) "I2C SCL", 17 P1[5] (io) "I2C SDA", 18 P1[3] (io), 19 P1[1] (io) "I2C SCL, ISSP SCLK", 21 D+ (io), 22 D- (io), 24 P7[7] (io), 25 P7[6] (io), 26 P7[5] (io), 27 P7[4] (io), 28 P7[3] (io), 29 P7[2] (io), 30 P7[1] (io), 31 P7[0] (io), 32 P1[0] (io) "I2C SDA, ISSP SDATA", 33 P1[2] (io), 34 P1[4] (io) "Optional EXTCLK", 35 P1[6] (io), 36 P5[0] (io), 37 P5[2] (io), 38 P5[4] (io), 39 P5[6] (io), 40 P3[0] (io), 41 P3[2] (io), 42 P3[4] (io), 43 P3[6] (io), 46 XRES (in) "Active high pin reset with internal pull-down", 47 P4[0] (io), 48 P4[2] (io), 49 P4[4] (io), 50 P4[6] (io), 51 P2[0] (io) "Direct switched capacitor block input", 52 P2[2] (io) "Direct switched capacitor block input", 53 P2[4] (power) "External AGND input", 54 P2[6] (io) "External VREF input", 55 P0[0] (io) "Analog column mux input", 56 P0[2] (io) "Analog column mux input and column output", 57 P0[4] (io) "Analog column mux input and column output", 58 P0[6] (io) "Analog column mux input", 61 P0[7] (io) "Analog column mux input, integration input #1", 62 P0[5] (io) "Analog column mux input and column output, integration input #2", 63 P0[3] (io) "Analog column mux input and column output", 64 P0[1] (io) "Analog column mux input", 65 P2[7] (io), 66 P2[5] (io), 67 P2[3] (io) "Direct switched capacitor block input", 68 P2[1] (io) "Direct switched capacitor block input"
part B pins: 5 OCDE (io) "OCD even data I/O", 6 OCDO (out) "OCD odd data output", 7 VSS (power) "Ground connection", 20 VSS (power) "Ground connection", 23 VDD (power) "Supply voltage", 44 HCLK (out) "OCD high speed clock output", 45 CCLK (out) "OCD CPU clock output", 59 VDD (power) "Supply voltage", 60 VSS (power) "Ground connection", 69 EP (power)

## CY8C24123A-24PXI
designator U?
PSoC Programmable System-on-Chip, 4 KB Flash, 6 GPIOs, 3.00 to 5.25 V, 8-Pin PDIP (P8); Manufacturer: Cypress; PartNumber: CY8C24123A-24PXI; Flash (KB): 4; Max. Operating Voltage (V): 5.25; Min. Operating Voltage (V): 3.00; DatasheetVersion: Rev. *T; PackageVersion: Rev. *R; PackageReference: DIP-8-51-85075; PackageDescription: 8-Pin PDIP, Row Spacing 7.62 mm, Pitch 2.54 mm; Supplier 1: Digi-Key; Supplier Part Number 1: 428-1602-ND; Supplier 2: Farnell; Supplier Part Number 2: 1267177; Supplier 3: Newark; Supplier Part Number 3: 19M7178; Supplier 4: Mouser; Supplier Part Number 4: 727-CY8C24123A-24PXI; No. of Programmable Digital Blocks: 4; Mounting Technology: Through Hole; ComponentLink1Description: Manufacturer URL; ComponentLink1URL: http://www.cypress.com/; ComponentLink2Description: Datasheet; ComponentLink2URL: http://www.cypress.com/?docID=45193; ComponentLink3Description: Package Specification; ComponentLink3URL: http://www.cypress.com/?docID=36703; ComponentLink4Description: Product URL; ComponentLink4URL: http://www.cypress.com/?rID=3351
footprint CYP-DIP-8-51-85075 (DIP, 8-Leads, Row Spacing 7.62mm, Body 9.779x6.35mm, Pitch 2.54mm)
pins: 1 P0[5] (io) "Analog column mux input and column output", 2 P0[3] (io) "Analog column mux input and column output", 3 P1[1] (io) "Crystal input (XTALin), I2C serial clock (SCL), ISSP-SCLK", 4 VSS (power) "Ground connection", 5 P1[0] (io) "Crystal output (XTALout), I2C serial data (SDA), ISSP-SDATA", 6 P0[2] (io) "Analog column mux input", 7 P0[4] (io) "Analog column mux input", 8 VDD (power) "Supply voltage"

## CY8C24123A-24SXI
designator U?
PSoC Programmable System-on-Chip, 4 KB Flash, 6 GPIOs, 3.00 to 5.25 V, 8-Pin SOIC (S08.15); Manufacturer: Cypress; PartNumber: CY8C24123A-24SXI; Flash (KB): 4; Max. Operating Voltage (V): 5.25; Min. Operating Voltage (V): 3.00; DatasheetVersion: Rev. *T; PackageVersion: *D; PackageReference: S08.15; PackageDescription: 8-Pin SOIC, Body 4.9 x 3.9 mm, Pitch 1.27 mm; Supplier 1: Digi-Key; Supplier Part Number 1: CY8C24123A-24SXI-ND; Supplier 2: Farnell; Supplier Part Number 2: 1267178; Supplier 3: Newark; Supplier Part Number 3: 19M7179; Supplier 4: Mouser; Supplier Part Number 4: 727-CY8C24123A-24SXI; No. of Programmable Digital Blocks: 4; Mounting Technology: Surface Mount; Code_JEDEC: MS-012; ComponentLink1Description: Manufacturer URL; ComponentLink1URL: http://www.cypress.com/; ComponentLink2Description: Datasheet; ComponentLink2URL: http://www.cypress.com/?docID=45193; ComponentLink3Description: Package Specification; ComponentLink3URL: http://www.cypress.com/?docID=20445; ComponentLink4Description: Product URL; ComponentLink4URL: http://www.cypress.com/?rID=3351
footprint CYP-S08.15_N (SOIC, 8-Leads, Body 4.9x3.9mm, Pitch 1.27mm, IPC Medium Density)
footprint CYP-S08.15_L (SOIC, 8-Leads, Body 4.9x3.9mm, Pitch 1.27mm, IPC High Density)
footprint CYP-S08.15_M (SOIC, 8-Leads, Body 4.9x3.9mm, Pitch 1.27mm, IPC Low Density)
pins: 1 P0[5] (io) "Analog column mux input and column  output", 2 P0[3] (io) "Analog column mux input and column  output", 3 P1[1] (io) "Crystal input (XTALin), I2C serial clock  (SCL), ISSP-SCLK", 4 VSS (power) "Ground connection", 5 P1[0] (io) "Crystal output (XTALout), I2C serial  data (SDA), ISSP-SDATA", 6 P0[2] (io) "Analog column mux input", 7 P0[4] (io) "Analog column mux input", 8 VDD (power) "Supply voltage"

## CY8C24123A-24SXIT
designator U?
PSoC Programmable System-on-Chip, 4 KB Flash, 6 GPIOs, 3.00 to 5.25 V, 8-Pin SOIC (S08.15), Tape and Reel; Manufacturer: Cypress; PartNumber: CY8C24123A-24SXIT; Flash (KB): 4; Max. Operating Voltage (V): 5.25; Min. Operating Voltage (V): 3.00; DatasheetVersion: Rev. *T; PackageVersion: *D; PackageReference: S08.15; PackageDescription: 8-Pin SOIC, Body 4.9 x 3.9 mm, Pitch 1.27 mm; Supplier 1: Digi-Key; Supplier Part Number 1: 428-1603-2-ND; Supplier 2: Digi-Key; Supplier Part Number 2: 428-1603-1-ND; Supplier 3: Digi-Key; Supplier Part Number 3: 428-1603-6-ND; Supplier 4: Newark; Supplier Part Number 4: 19M7180; Supplier 5: Mouser; Supplier Part Number 5: 727-CY8C24123A24SXIT; No. of Programmable Digital Blocks: 4; Mounting Technology: Surface Mount; Code_JEDEC: MS-012; ComponentLink1Description: Manufacturer URL; ComponentLink1URL: http://www.cypress.com/; ComponentLink2Description: Datasheet; ComponentLink2URL: http://www.cypress.com/?docID=45193; ComponentLink3Description: Package Specification; ComponentLink3URL: http://www.cypress.com/?docID=20445; ComponentLink4Description: Product URL; ComponentLink4URL: http://www.cypress.com/?rID=3351
footprint CYP-S08.15_N (SOIC, 8-Leads, Body 4.9x3.9mm, Pitch 1.27mm, IPC Medium Density)
footprint CYP-S08.15_L (SOIC, 8-Leads, Body 4.9x3.9mm, Pitch 1.27mm, IPC High Density)
footprint CYP-S08.15_M (SOIC, 8-Leads, Body 4.9x3.9mm, Pitch 1.27mm, IPC Low Density)
pins: 1 P0[5] (io) "Analog column mux input and column  output", 2 P0[3] (io) "Analog column mux input and column  output", 3 P1[1] (io) "Crystal input (XTALin), I2C serial clock  (SCL), ISSP-SCLK", 4 VSS (power) "Ground connection", 5 P1[0] (io) "Crystal output (XTALout), I2C serial  data (SDA), ISSP-SDATA", 6 P0[2] (io) "Analog column mux input", 7 P0[4] (io) "Analog column mux input", 8 VDD (power) "Supply voltage"

## CY8C24193-24LQXI
designator U?
PSoC Programmable System-on-Chip, 8 KB Flash, 28 GPIOs, 1.71 to 5.5 V, 32-Pin QFN (LQX32), Tray; Manufacturer: Cypress; PartNumber: CY8C24193-24LQXI; Flash (KB): 8; Max. Operating Frequency (MHz): 24; Max. Operating Voltage (V): 5.5; Min. Operating Voltage (V): 1.71; No. of GPIOs: 28; SRAM (KB): 1; DatasheetVersion: Rev. *E; PackageVersion: Rev. *E; PackageReference: LQX32; PackageDescription: 32-Pin QFN (5 x 4 x 0.55 mm) LQ32 3.5 x 3.5 E-Pad (Sawn); Supplier 1: Digi-Key; Supplier Part Number 1: CY8C24193-24LQXI-ND; Supplier 2: Newark; Supplier Part Number 2: 08X4479; Supplier 3: Mouser; Supplier Part Number 3: 727-CY8C24193-24LQXI; Max. Operating Temp. (degreesC): 85; Min. Operating Temp. (degreesC): -40; Packing: Tray; RoHS: Pb-Free; Mounting Technology: Surface Mount; Code_JEDEC: MO-248; ComponentLink1Description: Manufacturer URL; ComponentLink1URL: http://www.cypress.com/; ComponentLink2Description: Datasheet; ComponentLink2URL: http://www.cypress.com/?docID=45475; ComponentLink3Description: Package Specification; ComponentLink3URL: http://www.cypress.com/?docID=46968
footprint CYP-LQX32_N (QFN, 32-Leads, Body 5x5mm, Pitch 0.5mm, Thermal Pad 3.5x3.5mm, IPC Medium Density)
footprint CYP-LQX32_L (QFN, 32-Leads, Body 5x5mm, Pitch 0.5mm, Thermal Pad 3.5X3.5mm, IPC High Density)
footprint CYP-LQX32_M (QFN, 32-Leads, Body 5x5mm, Pitch 0.5mm, Thermal Pad 3.5x3.5mm, IPC Low Density)
pins: 1 P0[1] (io), 2 P2[7] (io), 3 P2[5] (io) "Crystal output (XOut)", 4 P2[3] (io) "Crystal input (XIn)", 5 P2[1] (io), 6 P3[3] (io), 7 P3[1] (io), 8 P1[7] (io) "2C SCL, SPI SS", 9 P1[5] (io) "I2C SDA, SPI MISO", 10 P1[3] (io) "SPI CLK.", 11 P1[1] (io) "ISSP CLK, I2C SCL, SPI MOSI.", 12 VSS (power) "Ground connection.", 13 P1[0] (io) "ISSP DATA, I2C SDA, SPI CLK", 14 P1[2] (io), 15 P1[4] (io) "Optional external clock input (EXTCLK)", 16 P1[6] (io), 17 XRES (in) "Active high external reset with internal pull-down", 18 P3[0] (io), 19 P3[2] (io), 20 P2[0] (io), 21 P2[2] (io), 22 P2[4] (io), 23 P2[6] (io), 24 P0[0] (io), 25 P0[2] (io), 26 P0[4] (io), 27 P0[6] (io), 28 VDD (power) "Supply voltage", 29 P0[7] (io), 30 P0[5] (io), 31 P0[3] (io), 32 VSS (power) "Ground connection", 33 VSS (power) "Center pad must be connected to ground"

## CY8C24223A-12PVXE
designator U?
Automotive Extended Temperature PSoC Programmable System-on-Chip, 4 KB Flash, 16 GPIOs, 4.75 to 5.25 V, 20-Pin SSOP (O20.21); Manufacturer: Cypress; PartNumber: CY8C24223A-12PVXE; Flash (KB): 4; Max. Operating Voltage (V): 5.25; Min. Operating Voltage (V): 4.75; DatasheetVersion: Rev. *L; PackageVersion: *C; PackageReference: PVX20; PackageDescription: 20-Pin SSOP, Body 7.2 x 5.3 mm, Pitch 0.65 mm; Supplier 1: Digi-Key; Supplier Part Number 1: CY8C24223A-12PVXE-ND; Supplier 2: Mouser; Supplier Part Number 2: 727-CY824223A-12PVXE; No. of Programmable Digital Blocks: 4; Mounting Technology: Surface Mount; ComponentLink1Description: Manufacturer URL; ComponentLink1URL: http://www.cypress.com/; ComponentLink2Description: Datasheet; ComponentLink2URL: http://www.cypress.com/?docID=48231; ComponentLink3Description: Package Specification; ComponentLink3URL: http://www.cypress.com/?docID=39148; ComponentLink4Description: Product URL; ComponentLink4URL: http://www.cypress.com/?rID=3310
footprint CYP-PVX20_N (SOP, 20-Leads, Body 7.2x5.3mm, Pitch 0.65mm, IPC Medium Density)
footprint CYP-PVX20_L (SOP, 20-Leads, Body 7.2x5.3mm, Pitch 0.65mm, IPC High Density)
footprint CYP-PVX20_M (SOP, 20-Leads, Body 7.2x5.3mm, Pitch 0.65mm, IPC Low Density)
pins: 1 P0[7] (io) "Analog column mux input", 2 P0[5] (io) "Analog column mux input and column  output", 3 P0[3] (io) "Analog column mux input and column  output", 4 P0[1] (io) "Analog column mux input", 5 VSS (power) "Ground connection", 6 P1[7] (io) "I2C Serial Clock (SCL)", 7 P1[5] (io) "I2C Serial Data(SDA)", 8 P1[3] (io), 9 P1[1] (io) "Crystal Input (XTALin), I2C Serial Clock  (SCL), ISSP-SCLK", 11 P1[0] (io) "Crystal Output (XTALout), I2C Serial Data(SDA),ISSP-SDATA", 12 P1[2] (io), 13 P1[4] (io) "Optional External Clock Input (EXTCLK)", 14 P1[6] (io), 15 XRES (in) "Active high external reset with internal pull  down", 16 P0[0] (io) "Analog column mux input", 17 P0[2] (io) "Analog column mux input", 18 P0[4] (io) "Analog column mux input", 19 P0[6] (io) "Analog column mux input", 20 VDD (power) "Supply voltage"